# EAGLE library part NUCLEO-F767ZI (library STMH7_v4)
STM32 Nucleo-144 development board with STM32F767ZI MCU, supports Arduino, ST Zio and morpho connectivity Check availability <https://pricing.snapeda.com/parts/NUCLEO-F767ZI/STMicroelectronics/view-part?ref=eda>
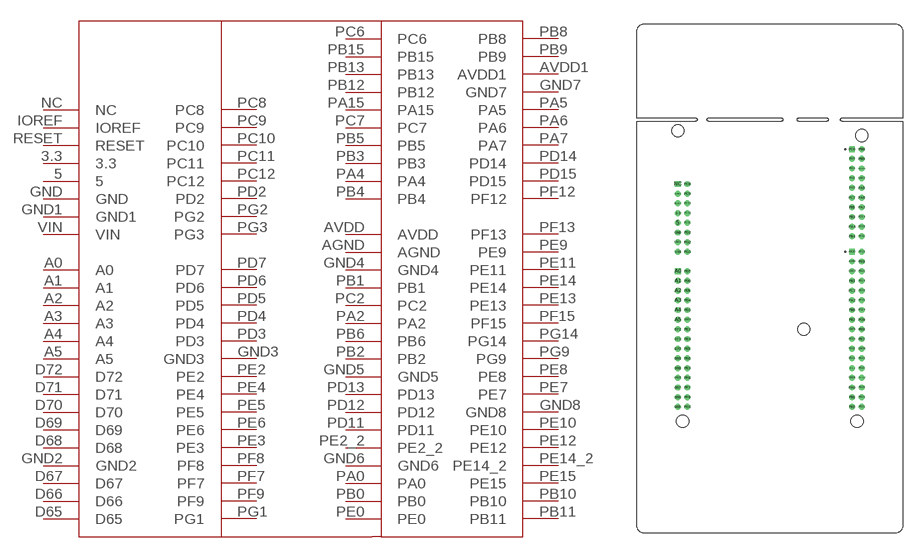
[diagram p0: symbol with the pads of ST_NUCLEO-F767ZI; footprint ST_NUCLEO-F767ZI]

Designator prefix A

## NUCLEO-F767ZI (AVAILABILITY: In Stock; CHECK_PRICES: https://www.snapeda.com/parts/NUCLEO-F767ZI/STMicroelectronics/view-part/?ref=eda; DESCRIPTION: STM32F767, mbed-Enabled Development Nucleo-144 STM32F7 ARM® Cortex®-M7 MCU 32-Bit Embedded Evaluation Board; MF: STMicroelectronics; MP: NUCLEO-F767ZI; PACKAGE: None; PRICE: None; SNAPEDA_LINK: https://www.snapeda.com/parts/NUCLEO-F767ZI/STMicroelectronics/view-part/?ref=snap)  [ST_NUCLEO-F767ZI]
3.3  3.3
5  5
A0  A0
A1  A1
A2  A2
A3  A3
A4  A4
A5  A5
AGND  AGND
AVDD  AVDD
AVDD1  AVDD1
D65  D65
D66  D66
D67  D67
D68  D68
D69  D69
D70  D70
D71  D71
D72  D72
GND  GND
GND1  GND1
GND2  GND2
GND3  GND3
GND4  GND4
GND5  GND5
GND6  GND6
GND7  GND7
GND8  GND8
IOREF  IOREF
NC  NC
PA0  PA0
PA2  PA2
PA4  PA4
PA5  PA5
PA6  PA6
PA7  PA7
PA15  PA15
PB0  PB0
PB1  PB1
PB2  PB2
PB3  PB3
PB4  PB4
PB5  PB5
PB6  PB6
PB8  PB8
PB9  PB9
PB10  PB10
PB11  PB11
PB12  PB12
PB13  PB13
PB15  PB15
PC2  PC2
PC6  PC6
PC7  PC7
PC8  PC8
PC9  PC9
PC10  PC10
PC11  PC11
PC12  PC12
PD2  PD2
PD3  PD3
PD4  PD4
PD5  PD5
PD6  PD6
PD7  PD7
PD11  PD11
PD12  PD12
PD13  PD13
PD14  PD14
PD15  PD15
PE0  PE0
PE2  PE2
PE2_2  PE2_2
PE3  PE3
PE4  PE4
PE5  PE5
PE6  PE6
PE7  PE7
PE8  PE8
PE9  PE9
PE10  PE10
PE11  PE11
PE12  PE12
PE13  PE13
PE14  PE14
PE14_2  PE14_2
PE15  PE15
PF7  PF7
PF8  PF8
PF9  PF9
PF12  PF12
PF13  PF13
PF15  PF15
PG1  PG1
PG2  PG2
PG3  PG3
PG9  PG9
PG14  PG14
RESET  RESET
VIN  VIN

## Footprint ST_NUCLEO-F767ZI (pad centres in mm)
drill 1.02: 3.3 -24.13,17.15; 5 -24.13,14.61; A1 -24.13,-0.63; A2 -24.13,-3.17; A3 -24.13,-5.71; A4 -24.13,-8.25; A5 -24.13,-10.79; AGND 21.59,4.45; AVDD1 24.13,28.834; D65 -24.13,-33.65; D66 -24.13,-31.11; D67 -24.13,-28.57; D68 -24.13,-23.49; D69 -24.13,-20.95; D70 -24.13,-18.41; D71 -24.13,-15.87; D72 -24.13,-13.33; GND -24.13,12.07; GND1 -24.13,9.53; GND2 -24.13,-26.03; GND3 -21.59,-10.79; GND4 21.59,1.91; GND5 21.59,-13.33; GND6 21.59,-26.03; GND7 24.13,26.294; GND8 24.13,-18.41; IOREF -24.13,22.23; PA0 21.59,-28.57; PA2 21.59,-5.71; PA4 21.59,13.594; PA5 24.13,23.754; PA6 24.13,21.214; PA7 24.13,18.674; PA15 21.59,23.754; PB0 21.59,-31.11; PB1 21.59,-0.63; PB2 21.59,-10.79; PB3 21.59,16.134; PB4 21.59,11.054; PB5 21.59,18.674; PB6 21.59,-8.25; PB8 24.13,33.914; PB9 24.13,31.374; PB10 24.13,-31.11; PB11 24.13,-33.65; PB12 21.59,26.294; PB13 21.59,28.834; PB15 21.59,31.374; PC2 21.59,-3.17; PC7 21.59,21.214; PC8 -21.59,24.77; PC9 -21.59,22.23; PC10 -21.59,19.69; PC11 -21.59,17.15; PC12 -21.59,14.61; PD2 -21.59,12.07; PD3 -21.59,-8.25; PD4 -21.59,-5.71; PD5 -21.59,-3.17; PD6 -21.59,-0.63; PD7 -21.59,1.91; PD11 21.59,-20.95; PD12 21.59,-18.41; PD13 21.59,-15.87; PD14 24.13,16.134; PD15 24.13,13.594; PE0 21.59,-33.65; PE2 -21.59,-13.33; PE2_2 21.59,-23.49; PE3 -21.59,-23.49; PE4 -21.59,-15.87; PE5 -21.59,-18.41; PE6 -21.59,-20.95; PE7 24.13,-15.87; PE8 24.13,-13.33; PE9 24.13,4.45; PE10 24.13,-20.95; PE11 24.13,1.91; PE12 24.13,-23.49; PE13 24.13,-3.17; PE14 24.13,-0.63; PE14_2 24.13,-26.03; PE15 24.13,-28.57; PF7 -21.59,-28.57; PF8 -21.59,-26.03; PF9 -21.59,-31.11; PF12 24.13,11.054; PF13 24.13,6.99; PF15 24.13,-5.71; PG1 -21.59,-33.65; PG2 -21.59,9.53; PG3 -21.59,6.99; PG9 24.13,-10.79; PG14 24.13,-8.25; RESET -24.13,19.69; VIN -24.13,6.99
drill 1.02 square: A0 -24.13,1.91; AVDD 21.59,6.99; NC -24.13,24.77; PC6 21.59,33.914
hole 3.2 at -22.86,-37.46
hole 3.2 at 22.86,-37.46
hole 3.2 at 24.13,37.47
hole 3.2 at 8.89,-13.33
hole 3.2 at -24.13,38.74